# Altium schematic symbol library fairchild-semic.SCHLIB: 4 symbols
Pins are listed as number, name and electrical type; pins without a type are passive.

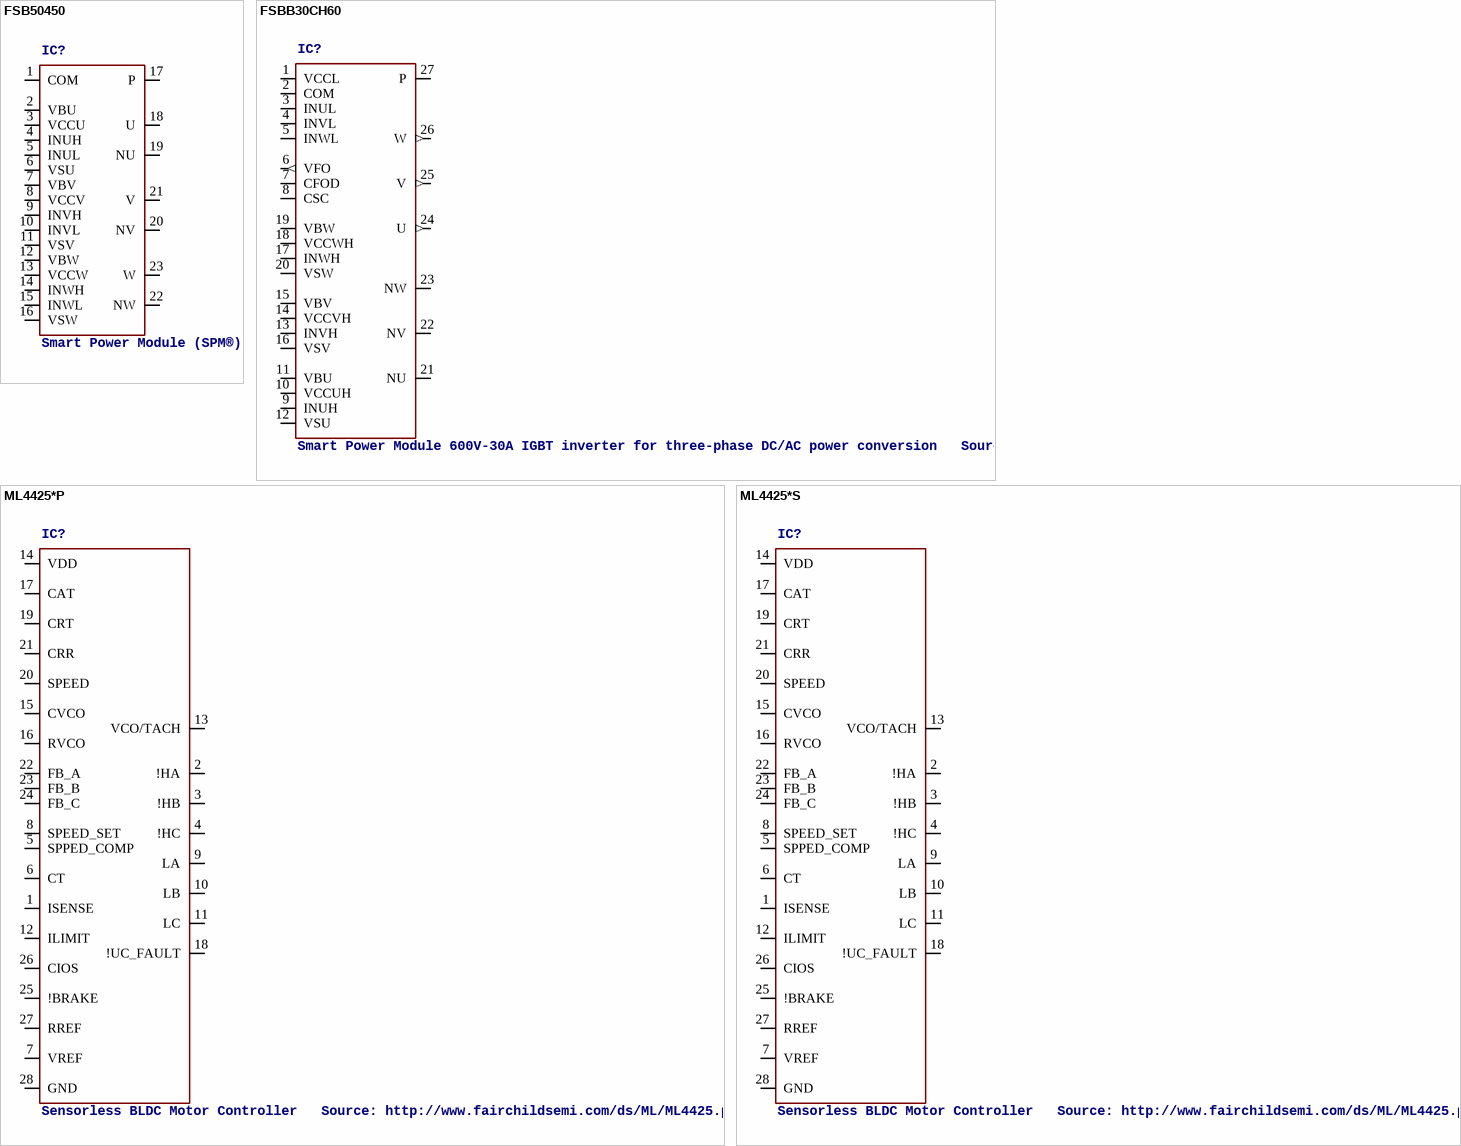
[diagram p0: symbols FSB50450 to ML4425*S]

## FSB50450
designator IC?, comment Smart Power Module (SPM®)   500V 3.0A 3-phase FRFET inverter including high voltage integrated circuit (HVIC) Source: http://www.fairchildsemi.com/ds/FS/FSB50450.pdf
MPN: FSB50450S; OC_FARNELL: 1095107; OC_NEWARK: 67P3515
footprint SPM23AA
pins: 1 COM, 2 VBU, 3 VCCU, 4 INUH, 5 INUL, 6 VSU, 7 VBV, 8 VCCV, 9 INVH, 10 INVL, 11 VSV, 12 VBW, 13 VCCW, 14 INWH, 15 INWL, 16 VSW, 17 P, 18 U, 19 NU, 20 NV, 21 V, 22 NW, 23 W

## FSBB30CH60
designator IC?, comment Smart Power Module 600V-30A IGBT inverter for three-phase DC/AC power conversion   Source: http://www.fairchildsemi.com/ds/FS/FSBB30CH60.pdf
MPN: FSBB30CH60B; OC_FARNELL: 1783234; OC_NEWARK: 78M1076
footprint FSBB30CH60
pins: 1 VCCL (power), 2 COM (power), 3 INUL, 4 INVL, 5 INWL, 6 VFO (out), 7 CFOD, 8 CSC, 9 INUH, 10 VCCUH, 11 VBU, 12 VSU, 13 INVH, 14 VCCVH, 15 VBV, 16 VSV, 17 INWH, 18 VCCWH, 19 VBW, 20 VSW, 21 NU, 22 NV, 23 NW, 24 U (out), 25 V (out), 26 W (out), 27 P

## ML4425*P
designator IC?, comment Sensorless BLDC Motor Controller   Source: http://www.fairchildsemi.com/ds/ML/ML4425.pdf
MPN: ML4425CP; MF: FAIRCHILD SEMICONDUCTOR; OC_FARNELL: unknown; OC_NEWARK: 34C1197; OC_NEWARK: unknown
footprint DIL28-3
pins: 1 ISENSE, 2 !HA (power), 3 !HB (power), 4 !HC (power), 5 SPPED_COMP, 6 CT, 7 VREF (power), 8 SPEED_SET, 9 LA (power), 10 LB (power), 11 LC (power), 12 ILIMIT, 13 VCO/TACH (power), 14 VDD (power), 15 CVCO (power), 16 RVCO (power), 17 CAT (power), 18 !UC_FAULT (power), 19 CRT (power), 20 SPEED (power), 21 CRR (power), 22 FB_A, 23 FB_B, 24 FB_C, 25 !BRAKE, 26 CIOS, 27 RREF (power), 28 GND (power)

## ML4425*S
designator IC?, comment Sensorless BLDC Motor Controller   Source: http://www.fairchildsemi.com/ds/ML/ML4425.pdf
MPN: ML4425ISX; MF: FAIRCHILD SEMICONDUCTOR; OC_FARNELL: unknown; OC_NEWARK: unknown; OC_NEWARK: 82C8713
footprint SO-28W
pins: 1 ISENSE, 2 !HA (power), 3 !HB (power), 4 !HC (power), 5 SPPED_COMP, 6 CT, 7 VREF (power), 8 SPEED_SET, 9 LA (power), 10 LB (power), 11 LC (power), 12 ILIMIT, 13 VCO/TACH (power), 14 VDD (power), 15 CVCO (power), 16 RVCO (power), 17 CAT (power), 18 !UC_FAULT (power), 19 CRT (power), 20 SPEED (power), 21 CRR (power), 22 FB_A, 23 FB_B, 24 FB_C, 25 !BRAKE, 26 CIOS, 27 RREF (power), 28 GND (power)